# EAGLE library part XBEE (library ZMPLC)
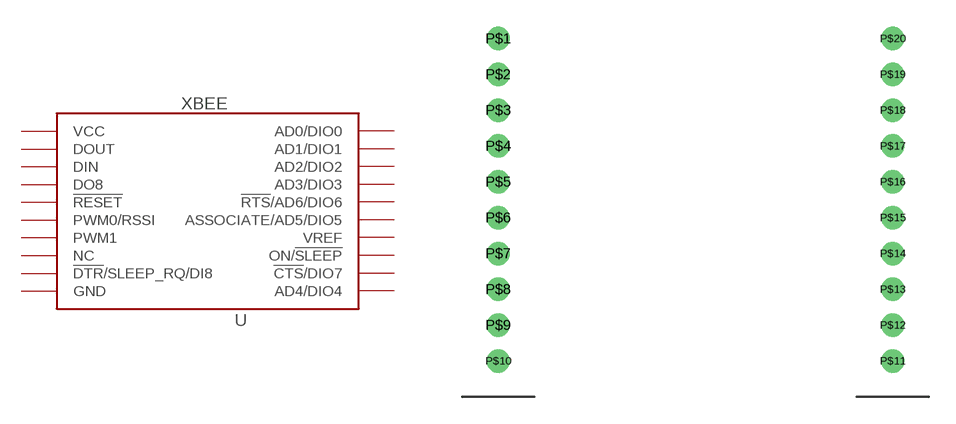
[diagram p24: symbol with the pads of TRANSCEIVERXB; footprint TRANSCEIVERXB]

Designator prefix -

## XBEE  [TRANSCEIVERXB]
P$1  VCC
P$2  DOUT
P$3  DIN
P$4  DO8
P$5  !RESET!
P$6  PWM0/RSSI
P$7  PWM1
P$8  NC
P$9  !DTR!/SLEEP_RQ/DI8
P$10  GND
P$11  AD4/DIO4
P$12  !CTS!/DIO7
P$13  ON/!SLEEP!
P$14  VREF
P$15  ASSOCIATE/AD5/DIO5
P$16  !RTS!/AD6/DIO6
P$17  AD3/DIO3
P$18  AD2/DIO2
P$19  AD1/DIO1
P$20  AD0/DIO0

## Footprint TRANSCEIVERXB (pad centres in mm)
drill 0.8: P$1 -4,6; P$2 -4,4; P$3 -4,2; P$4 -4,0; P$5 -4,-2; P$6 -4,-4; P$7 -4,-6; P$8 -4,-8; P$9 -4,-10; P$10 -4,-12; P$11 18,-12; P$12 18,-10; P$13 18,-8; P$14 18,-6; P$15 18,-4; P$16 18,-2; P$17 18,0; P$18 18,2; P$19 18,4; P$20 18,6